# Altium schematic symbol library Digital Temperature.SchLib: 1 symbol
Pins are listed as number, name and electrical type; pins without a type are passive.

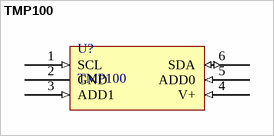
[diagram p0: symbol TMP100]

## TMP100
designator U?
digital temperature sensors; accuracy of ±1°C without requiring calibration or external component signal conditioning;  The on-chip, 12-bit ADC offers resolutions down to 0.0625°C. The devices are available in 6-Pin SOT-23 packages.; Digital Output: SMBus™, Two-Wire, and I2C Interface Compatibility; Resolution:: 9 to 12 Bits, User-Selectable; Accuracy: ±1°C (Typical) from –55°C to 125°C; Low Quiescent Current: 45-µA, 0.1-µA Standby; Wide Supply Range: 2.7 V to 5.5 V; ComponentLink1Description: Datasheet; ComponentLink1URL: http://www.ti.com/lit/ds/symlink/tmp100.pdf
footprint SOT95P280X145-6N (SOT23, 6-Leads, Body 2,90x2,80mm, Pitch 0,95mm, IPC Medium Density)
pins: 1 SCL (in) "Serial clock. Open-drain output; requires a pullup resistor", 2 GND "Ground", 3 ADD1 (in) "Address select. Connect to GND, V+, or leave floating", 4 V+ (in) "Supply voltage, 2.7 V to 5.5 V", 5 ADD0 (in) "Address select. Connect to GND, V+, or leave floating", 6 SDA (io) "Serial data. Open-drain output; requires a pullup resistor."